# Altium schematic symbol library Conn,Spring,Target,8Pos,Thru.Schlib: 1 symbol
Pins are listed as number, name and electrical type; pins without a type are passive.

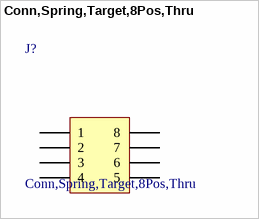
[diagram p0: symbol Conn,Spring,Target,8Pos,Thru]

## Conn,Spring,Target,8Pos,Thru
designator J?
8 Position Spring Mating Target Connector Through Hole
pins: 1, 2, 3, 4, 5, 6, 7, 8